# Altium footprint library PcbLib1.PcbLib: 1 footprints
Each footprint in its own frame and in the unit in brackets; x right, y up, seen from the top. Pads: shape width x height; smd on the part's side, far side on the other; paste and mask are expansions set on the pad; w line width, h text height; cw(c..) or ccw(c..) is an arc to the next point about the centre after c.
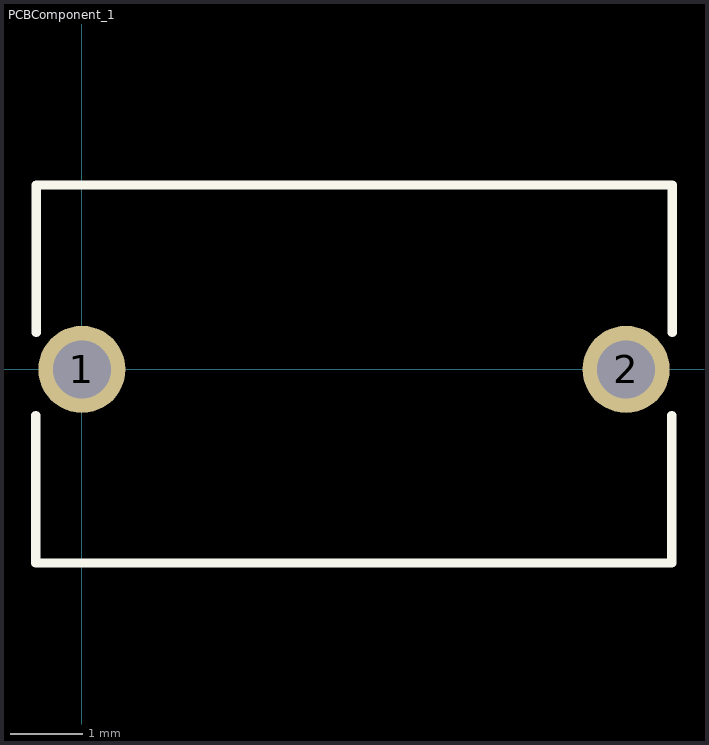
[diagram p0: the footprint, top view; thin cyan lines are the x and y axes]

## PCBComponent_1 [mm]
pads (2):
  round 1.2 hole 0.8: 1(0,0) 2(7.5,0)
Top Overlay:
  lines w0.127: -0.635,-0.635 -0.635,-2.667 8.128,-2.667 8.128,-0.635 ; -0.628,0.508 -0.628,2.54 8.135,2.54 8.135,0.508
3D body "C717U102MYVDBA7317.step": height 12.86, standoff -19.14, extent -0.596,-2.591 8.104,2.414